# Altium schematic symbol library SFH11-PBPC-D10-RA-BK.SchLib: 2 symbols
Pins are listed as number, name and electrical type; pins without a type are passive.

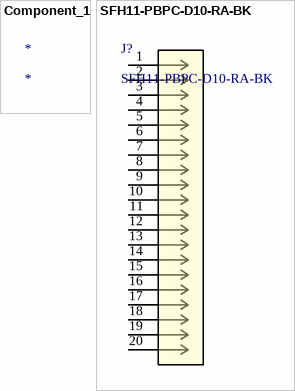
[diagram p0: symbols Component_1 to SFH11-PBPC-D10-RA-BK]

## Component_1
designator *

## SFH11-PBPC-D10-RA-BK
designator J?
No Description Available; Manufacturer_Name: Sullins; Copyright: Copyright (C) 2025 Ultra Librarian. All rights reserved.; Manufacturer_Part_Number: SFH11-PBPC-D10-RA-BK; RefDes: RefDes; Type: Type
footprint CONN20_D10-RA-BK_SUL
pins: 1, 2, 3, 4, 5, 6, 7, 8, 9, 10, 11, 12, 13, 14, 15, 16, 17, 18, 19, 20